# Altium footprint library SAMTEC_TSM_Mirrored.PcbLib: 3 footprints
Each footprint in its own frame and in the unit in brackets; x right, y up, seen from the top. Pads: shape width x height; smd on the part's side, far side on the other; paste and mask are expansions set on the pad; w line width, h text height; cw(c..) or ccw(c..) is an arc to the next point about the centre after c.
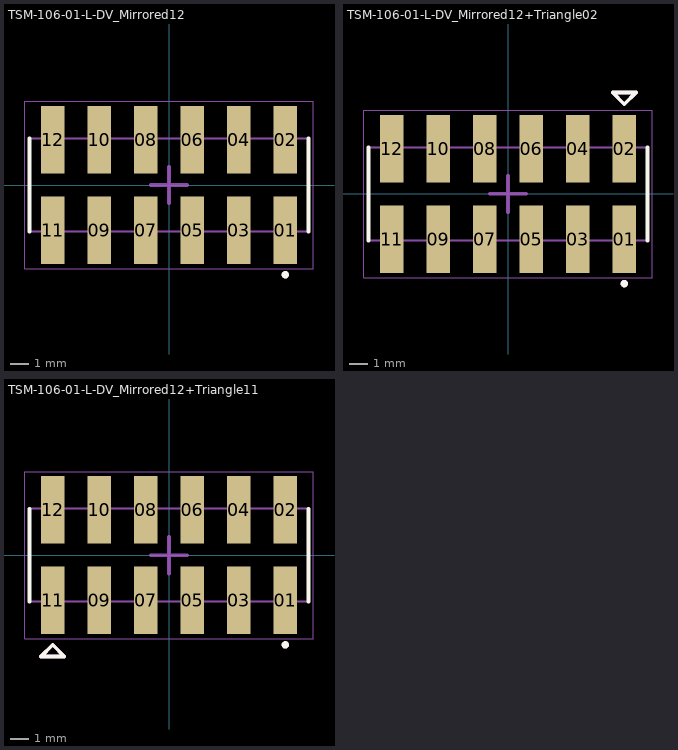
[diagram p0: the footprints below, top view; thin cyan lines are the x and y axes]

## TSM-106-01-L-DV_Mirrored12 [mm]
pads (12):
  rect 1.27x3.68 smd: 01(6.35,-2.475) 02(6.35,2.475) 03(3.81,-2.475) 04(3.81,2.475) 05(1.27,-2.475) 06(1.27,2.475) 07(-1.27,-2.475) 08(-1.27,2.475) 09(-3.81,-2.475) 10(-3.81,2.475) 11(-6.35,-2.475) 12(-6.35,2.475)
Top Overlay:
  circle w0.2: c6.35,-4.9 r0.1
  lines w0.2: -7.62,-2.54 -7.62,2.54 ; 7.62,-2.54 7.62,2.54
Top Assembly:
  circle w0.2: c6.35,-4.9 r0.1
  lines w0.1: -7.62,-2.54 7.62,-2.54 7.62,2.54 -7.62,2.54 -7.62,-2.54
Top Courtyard:
  lines w0.05: -7.87,-4.565 7.87,-4.565 7.87,4.565 -7.87,4.565 -7.87,-4.565
Top Designator:
  text ".Designator" at -0.3,-0.3 h0.76
Top Component Center:
  lines w0.2: -1,0 1,0 ; 0,-1 0,1
3D body "step_temp.STEP": height 9.91, standoff 0, extent -7.62,-3.848 7.62,3.848

## TSM-106-01-L-DV_Mirrored12+Triangle02 [mm]
pads (12):
  rect 1.27x3.68 smd: 01(6.35,-2.475) 02(6.35,2.475) 03(3.81,-2.475) 04(3.81,2.475) 05(1.27,-2.475) 06(1.27,2.475) 07(-1.27,-2.475) 08(-1.27,2.475) 09(-3.81,-2.475) 10(-3.81,2.475) 11(-6.35,-2.475) 12(-6.35,2.475)
Top Overlay:
  circle w0.2: c6.35,-4.9 r0.1
  lines w0.2: -7.62,-2.54 -7.62,2.54 ; 7.62,-2.54 7.62,2.54 ; 5.715,5.535 6.985,5.535 6.35,4.9 5.715,5.535
Top Assembly:
  circle w0.2: c6.35,-4.9 r0.1
  lines w0.1: -7.62,-2.54 7.62,-2.54 7.62,2.54 -7.62,2.54 -7.62,-2.54
  lines w0.2: 5.715,5.535 6.985,5.535 6.35,4.9 5.715,5.535
Top Courtyard:
  lines w0.05: -7.87,-4.565 7.87,-4.565 7.87,4.565 -7.87,4.565 -7.87,-4.565
Top Designator:
  text ".Designator" at -0.3,-0.3 h0.76
Top Component Center:
  lines w0.2: -1,0 1,0 ; 0,-1 0,1
3D body "step_temp.STEP": height 9.91, standoff 0, extent -7.62,-3.848 7.62,3.848

## TSM-106-01-L-DV_Mirrored12+Triangle11 [mm]
pads (12):
  rect 1.27x3.68 smd: 01(6.35,-2.475) 02(6.35,2.475) 03(3.81,-2.475) 04(3.81,2.475) 05(1.27,-2.475) 06(1.27,2.475) 07(-1.27,-2.475) 08(-1.27,2.475) 09(-3.81,-2.475) 10(-3.81,2.475) 11(-6.35,-2.475) 12(-6.35,2.475)
Top Overlay:
  circle w0.2: c6.35,-4.9 r0.1
  lines w0.2: -7.62,-2.54 -7.62,2.54 ; 7.62,-2.54 7.62,2.54 ; -6.985,-5.535 -5.715,-5.535 -6.35,-4.9 -6.985,-5.535
Top Assembly:
  circle w0.2: c6.35,-4.9 r0.1
  lines w0.1: -7.62,-2.54 -7.62,2.54 7.62,2.54 7.62,-2.54 -7.62,-2.54
  lines w0.2: -6.985,-5.535 -5.715,-5.535 -6.35,-4.9 -6.985,-5.535
Top Courtyard:
  lines w0.05: -7.87,-4.565 -7.87,4.565 7.87,4.565 7.87,-4.565 -7.87,-4.565
Top Designator:
  text ".Designator" at -0.3,-0.3 h0.76
Top Component Center:
  lines w0.2: -1,0 1,0 ; 0,-1 0,1
3D body "step_temp.STEP": height 9.91, standoff 0, extent -7.62,-3.848 7.62,3.848